# Altium footprint library SHF-105-01-F-D-TH.PcbLib: 1 footprints
Each footprint in its own frame and in the unit in brackets; x right, y up, seen from the top. Pads: shape width x height; smd on the part's side, far side on the other; paste and mask are expansions set on the pad; w line width, h text height; cw(c..) or ccw(c..) is an arc to the next point about the centre after c.
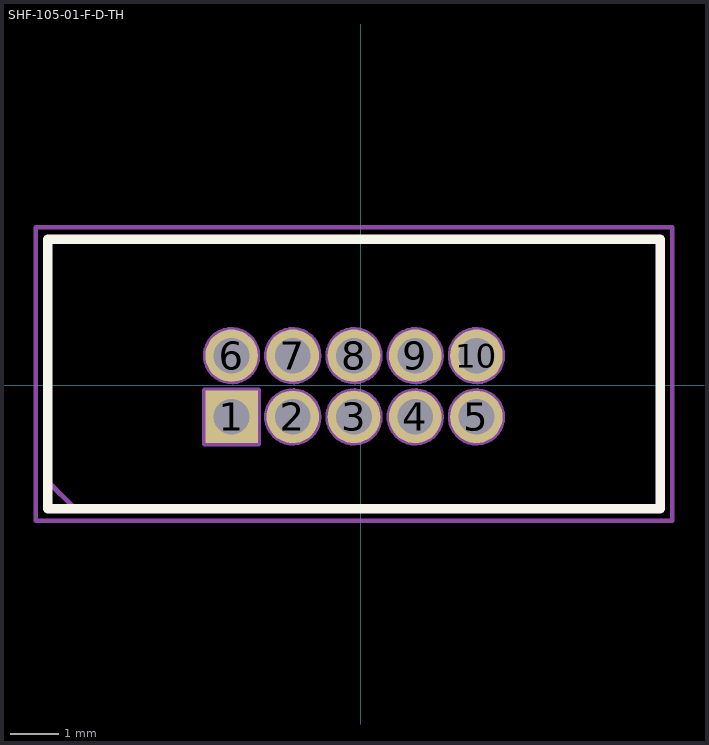
[diagram p0: the footprint, top view; thin cyan lines are the x and y axes]

## SHF-105-01-F-D-TH [mm]
pads (10):
  rect 1.09x1.09 hole 0.74: 1(-2.676,-0.654)
  round 1.09 hole 0.74: 2(-1.406,-0.654) 3(-0.136,-0.654) 4(1.134,-0.654) 5(2.404,-0.654) 6(-2.676,0.616) 7(-1.406,0.616) 8(-0.136,0.616) 9(1.134,0.616) 10(2.404,0.616)
Top Overlay:
  lines w0.2: -6.486,-2.559 6.214,-2.559 6.214,3.031 -6.486,3.031 -6.486,-2.559
Mechanical 3:
  lines w0.1: -6.486,-1.994 -6.486,3.031 6.214,3.031 6.214,-2.559 -5.921,-2.559 -6.486,-1.994
Mechanical 5:
  circle w0.1: c-0.136,-0.654 r0.545
  circle w0.1: c-1.406,-0.654 r0.545
  circle w0.1: c-1.406,0.616 r0.545
  circle w0.1: c-0.136,0.616 r0.545
  circle w0.1: c2.404,-0.654 r0.545
  circle w0.1: c1.134,0.616 r0.545
  circle w0.1: c1.134,-0.654 r0.545
  circle w0.1: c2.404,0.616 r0.545
  circle w0.1: c-2.676,0.616 r0.545
  lines w0.1: -3.236,-1.219 -3.236,-0.094 -2.111,-0.094 -2.111,-1.219 -3.236,-1.219
Mechanical 7:
  lines w0.1: -6.736,-2.809 -6.736,3.281 6.464,3.281 6.464,-2.809 -6.736,-2.809
Mechanical 9:
  text "'.Designator'" at -5.851,1.632 h1
3D body "SHF-105-01-F-D-TH.stp": height 5.33, standoff -1.91, extent -6.477,-2.54 6.223,3.048
3D body: height 1.04, standoff 0, extent -6.736,-2.809 6.464,3.281